# Altium schematic symbol library OK6010_DB.SCHLIB: 58 symbols
Pins are listed as number, name and electrical type; pins without a type are passive.

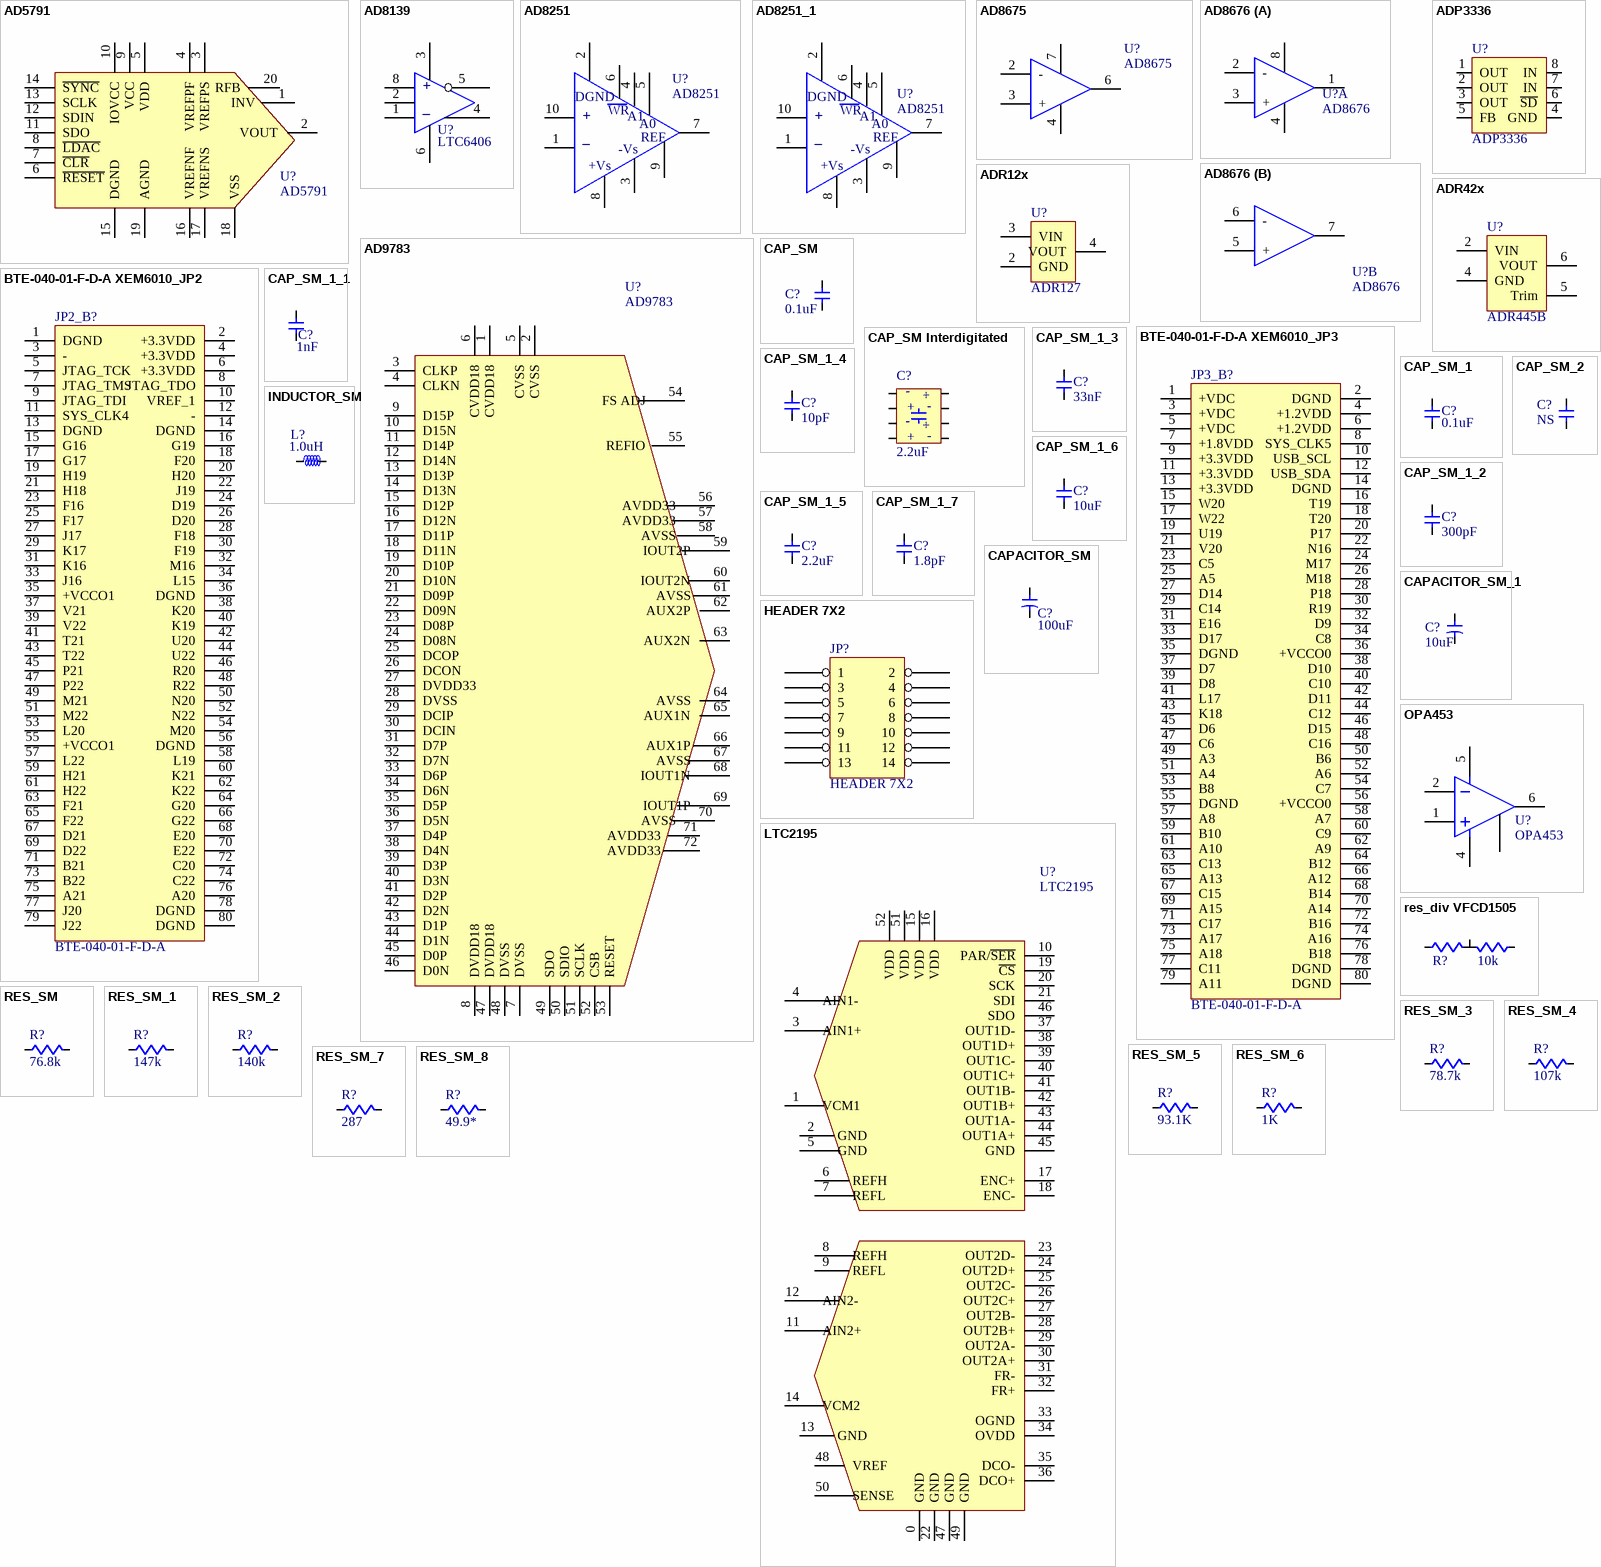
[diagram p0: symbols AD5791 to RES_SM_8]

## AD5791
designator U?
DAC 20BIT SRL 20TSSOP; Manufacturer: Analog Devices Inc; Manufacturer Part Number: AD5791ARUZ; Settling Time: 1µs; Number of Bits: 20; Data Interface: DSP, MICROWIRE™, QSPI™, Serial, SPI™; Number of Converters: 1; Voltage Supply Source: Dual ±; Supplier 1: Digi-Key; Supplier Part Number 1: AD5791ARUZ-ND; RoHS: RoHS Compliant; Category: Integrated Circuits (ICs); Stock 1: 0; Pricing 1: 1=66.31, 25=59.2804, 100=56.266, 250=53.45272, 500=51.74462, 1000=49.63465 (USD); Power Dissipation (Max): -; Operating Temperature: -40°C ~ 125°C; Mounting Type: Surface Mount; Package / Case: 20-TSSOP (0.173", 4.40mm Width); Supplier Device Package: 20-TSSOP; Packaging: Tube; ComponentLink1URL: http://www.analog.com/static/imported-files/data_sheets/AD5791.pdf; ComponentLink1Description: http://www.analog.com/static/imported-files/data_sheets/AD5791.pdf
footprint TSSOP20
pins: 1 INV, 2 VOUT, 3 VREFPS, 4 VREFPF, 5 VDD, 6 ~{RESET}, 7 ~{CLR}, 8 ~{LDAC}, 9 VCC, 10 IOVCC, 11 SDO, 12 SDIN, 13 SCLK, 14 ~{SYNC}, 15 DGND, 16 VREFNF, 17 VREFNS, 18 VSS, 19 AGND, 20 RFB

## AD8139
designator U?, comment LTC6406
Differential ADC Driver; Supplier 1: Digi-Key; Supplier Part Number 1: LTC6406CMS8E#PBF-ND
footprint soic8
footprint MSOP08
pins: 1, 2, 3, 4, 5, 6, 8
text: +; _

## AD8251
designator U?
IC AMP INST ICMOS LDRIFT 10MSOP; Supplier 1: Digi-Key; Supplier Part Number 1: AD8251ARMZ-ND
footprint MSOP10sm (AD8351)
pins: 1, 2, 3, 4, 5, 6, 7, 8, 9, 10
text: DGND; WR; +; A1; A0; _; REF; -Vs; +Vs

## AD8251_1
designator U?, comment AD8251
Programmable Gain Instumentation Amp; Supplier 1: Digi-Key; Supplier Part Number 1: AD8251ARMZ-ND
footprint MSOP10sm (AD8351)
pins: 1, 2, 3, 4, 5, 6, 7, 8, 9, 10
text: DGND; WR; +; A1; A0; _; REF; -Vs; +Vs

## AD8675
designator U?
ultraprecision  rail-to-rail op amp; Manufacturer: Analog Devices Inc; Manufacturer Part Number: AD8675ARMZ-REEL; Amplifier Type: General Purpose; Number of Circuits: 1; Slew Rate: 2.5 V/µs; Gain Bandwidth Product: 10MHz; Current - Input Bias: 500pA; Voltage - Input Offset: 10µV; Current - Supply: 2.5mA; Current - Output / Channel: 20mA; Voltage - Supply, Single/Dual (±): 10 V ~ 36 V, ±5 V ~ 18 V; Supplier 1: Digi-Key; Supplier Part Number 1: AD8675ARMZ-REELCT-ND; RoHS: RoHS Compliant; Category: Integrated Circuits (ICs); Stock 1: 6848; Pricing 1: 1=3.66, 25=2.9892, 100=2.684, 250=2.44, 500=2.135, 1000=1.83 (USD); Output Type: Rail-to-Rail; -3db Bandwidth: -; Operating Temperature: -40°C ~ 125°C; Mounting Type: Surface Mount; Package / Case: 8-TSSOP, 8-MSOP (0.118", 3.00mm Width); Supplier Device Package: 8-MSOP; Packaging: Cut Tape (CT); ComponentLink1URL: http://www.analog.com/static/imported-files/Data_Sheets/AD8675.pdf; ComponentLink1Description: http://www.analog.com/static/imported-files/Data_Sheets/AD8675.pdf
footprint MSOP08
pins: 2 -, 3 +, 4 V-, 6 OUT, 7 V+

## AD8676
designator U?
ultraprecision dual rail-to-rail op amp; Manufacturer: Analog Devices Inc; Manufacturer Part Number: AD8676BRMZ-REEL; Amplifier Type: General Purpose; Number of Circuits: 2; Slew Rate: 2.5 V/µs; Gain Bandwidth Product: 10MHz; Current - Input Bias: 2nA; Voltage - Input Offset: 12µV; Current - Supply: 2.7mA; Current - Output / Channel: 20mA; Voltage - Supply, Single/Dual (±): 10 V ~ 36 V, ±5 V ~ 18 V; Supplier 1: Digi-Key; Supplier Part Number 1: AD8676BRMZ-REELCT-ND; RoHS: RoHS Compliant; Category: Integrated Circuits (ICs); Stock 1: 23534; Pricing 1: 1=6.6, 25=5.39, 100=4.84, 250=4.4, 500=3.85, 1000=3.3 (USD); Output Type: Rail-to-Rail; -3db Bandwidth: -; Operating Temperature: -40°C ~ 125°C; Mounting Type: Surface Mount; Package / Case: 8-TSSOP, 8-MSOP (0.118", 3.00mm Width); Supplier Device Package: 8-MSOP; Packaging: Cut Tape (CT); ComponentLink1URL: http://www.analog.com/static/imported-files/Data_Sheets/AD8676.pdf; ComponentLink1Description: http://www.analog.com/static/imported-files/Data_Sheets/AD8676.pdf
footprint MSOP08
part A pins: 1 OUTA, 2 -, 3 +, 4 V-, 8 V+
part B pins: 5 +, 6 -, 7 OUTB

## AD9783
designator U?
DAC LVDS DUAL16BIT 500MSPS; Supplier 1: Digi-Key; Supplier Part Number 1: AD9783BCPZ-ND
footprint LFCSP72
pins: 1 CVDD18, 2 CVSS, 3 CLKP, 4 CLKN, 5 CVSS, 6 CVDD18, 7 DVSS, 8 DVDD18, 9 D15P, 10 D15N, 11 D14P, 12 D14N, 13 D13P, 14 D13N, 15 D12P, 16 D12N, 17 D11P, 18 D11N, 19 D10P, 20 D10N, 21 D09P, 22 D09N, 23 D08P, 24 D08N, 25 DCOP, 26 DCON, 27 DVDD33, 28 DVSS, 29 DCIP, 30 DCIN, 31 D7P, 32 D7N, 33 D6P, 34 D6N, 35 D5P, 36 D5N, 37 D4P, 38 D4N, 39 D3P, 40 D3N, 41 D2P, 42 D2N, 43 D1P, 44 D1N, 45 D0P, 46 D0N, 47 DVDD18, 48 DVSS, 49 SDO, 50 SDIO, 51 SCLK, 52 CSB, 53 RESET, 54 FS ADJ, 55 REFIO, 56 AVDD33, 57 AVDD33, 58 AVSS, 59 IOUT2P, 60 IOUT2N, 61 AVSS, 62 AUX2P, 63 AUX2N, 64 AVSS, 65 AUX1N, 66 AUX1P, 67 AVSS, 68 IOUT1N, 69 IOUT1P, 70 AVSS, 71 AVDD33, 72 AVDD33

## ADP3336
designator U?
regulator; Manufacturer: Analog Devices Inc; Manufacturer Part Number: ADP3336ARMZ-REEL7; Regulator Topology: Positive Adjustable; Voltage - Output: 1.5 V ~ 10 V; Voltage - Input: 2.6 V ~ 12 V; Voltage - Dropout (Typical): 0.2V @ 500mA; Number of Regulators: 1; Current - Output: 500mA; Supplier 1: Digi-Key; Supplier Part Number 1: ADP3336ARMZ-REEL7CT-ND; RoHS: RoHS Compliant; Category: Integrated Circuits (ICs); Stock 1: 10613; Pricing 1: 1=3.22, 25=2.484, 100=2.254, 250=2.024, 500=1.748 (USD); Current - Limit (Min): -; Operating Temperature: -40°C ~ 85°C; Mounting Type: Surface Mount; Package / Case: 8-TSSOP, 8-MSOP (0.118", 3.00mm Width); Supplier Device Package: 8-MSOP; Packaging: Cut Tape (CT); ComponentLink1URL: http://www.analog.com/static/imported-files/data_sheets/ADP3336.pdf; ComponentLink1Description: http://www.analog.com/static/imported-files/data_sheets/ADP3336.pdf
footprint MSOP08
pins: 1 OUT, 2 OUT, 3 OUT, 4 GND, 5 FB, 6 ~{SD}, 7 IN, 8 IN

## ADR12x
designator U?, comment ADR127
Voltage Reference; Manufacturer: Analog Devices Inc; Manufacturer Part Number: ADR127AUJZ-REEL7; Reference Type: Series, Precision; Voltage - Output: 1.25V; Tolerance: ±0.24%; Temperature Coefficient: 25ppm/°C; Voltage - Input: 2.7 V ~ 18 V; Number of Channels: 1; Current - Quiescent: 95µA; Current - Output: 5mA; Supplier 1: Digi-Key; Supplier Part Number 1: ADR127AUJZ-REEL7CT-ND; RoHS: RoHS Compliant; Category: Integrated Circuits (ICs); Stock 1: 17098; Pricing 1: 1=3.22, 25=2.484, 100=2.254, 250=2.024, 500=1.748 (USD); Current - Cathode: -; Operating Temperature: -40°C ~ 125°C; Mounting Type: Surface Mount; Package / Case: TSOT-23-6, TSOT-6; Supplier Device Package: TSOT-6; Packaging: Cut Tape (CT); ComponentLink1URL: http://www.analog.com/static/imported-files/Data_Sheets/ADR121_125_127.pdf; ComponentLink1Description: http://www.analog.com/static/imported-files/Data_Sheets/ADR121_125_127.pdf
footprint TSOT-6
pins: 1 NC hidden, 2 GND, 3 VIN, 4 VOUT, 5 NC hidden, 6 NC hidden

## ADR42x
designator U?, comment ADR445B
Ultra Precision Low Noise XFET Voltage Reference; Manufacturer: Analog Devices Inc; Manufacturer Part Number: ADR445BRZ; Reference Type: Series, Precision; Voltage - Output: 5V; Tolerance: ±0.04%; Temperature Coefficient: 3ppm/°C; Voltage - Input: 5.5 V ~ 18 V; Number of Channels: 1; Current - Quiescent: 3.75mA; Current - Output: 10mA; Supplier 1: Digi-Key; Supplier Part Number 1: ADR445BRZ-ND; RoHS: RoHS Compliant; Category: Integrated Circuits (ICs); Stock 1: 4260; Pricing 1: 1=8.75, 25=7.1752, 100=6.475, 250=5.95, 500=5.425, 1000=4.725, 2500=4.55, 5000=4.375 (USD); Current - Cathode: -; Operating Temperature: -40°C ~ 125°C; Mounting Type: Surface Mount; Package / Case: 8-SOIC (0.154", 3.90mm Width); Supplier Device Package: 8-SOIC; Packaging: Tube; ComponentLink1URL: http://www.analog.com/static/imported-files/Data_Sheets/ADR440_441_443_444_445.pdf; ComponentLink1Description: http://www.analog.com/static/imported-files/Data_Sheets/ADR440_441_443_444_445.pdf
footprint TSOT-6
footprint SOIC08
pins: 1 NC hidden, 2 VIN, 4 GND, 5 NC hidden, 5 Trim, 6 NC hidden, 6 VOUT

## BTE-040-01-F-D-A XEM6010_JP2
designator JP2_B?, comment BTE-040-01-F-D-A
Samtec Connector 0.8mm 80pin; Supplier 1: Newark; Supplier Part Number 1: 89M7080
footprint BTE-040-01-F-D-A (Samtec Surface Mount Micro Terminal Strip)
pins: 1 DGND, 2 +3.3VDD, 3 -, 4 +3.3VDD, 5 JTAG_TCK, 6 +3.3VDD, 7 JTAG_TMS, 8 JTAG_TDO, 9 JTAG_TDI, 10 VREF_1, 11 SYS_CLK4, 12 -, 13 DGND, 14 DGND, 15 G16, 16 G19, 17 G17, 18 F20, 19 H19, 20 H20, 21 H18, 22 J19, 23 F16, 24 D19, 25 F17, 26 D20, 27 J17, 28 F18, 29 K17, 30 F19, 31 K16, 32 M16, 33 J16, 34 L15, 35 +VCCO1, 36 DGND, 37 V21, 38 K20, 39 V22, 40 K19, 41 T21, 42 U20, 43 T22, 44 U22, 45 P21, 46 R20, 47 P22, 48 R22, 49 M21, 50 N20, 51 M22, 52 N22, 53 L20, 54 M20, 55 +VCCO1, 56 DGND, 57 L22, 58 L19, 59 H21, 60 K21, 61 H22, 62 K22, 63 F21, 64 G20, 65 F22, 66 G22, 67 D21, 68 E20, 69 D22, 70 E22, 71 B21, 72 C20, 73 B22, 74 C22, 75 A21, 76 A20, 77 J20, 78 DGND, 79 J22, 80 DGND

## BTE-040-01-F-D-A XEM6010_JP3
designator JP3_B?, comment BTE-040-01-F-D-A
Samtec Connector 0.8mm 80pin; Supplier 1: Newark; Supplier Part Number 1: 89M7080
footprint BTE-040-01-F-D-A (Samtec Surface Mount Micro Terminal Strip)
pins: 1 +VDC, 2 DGND, 3 +VDC, 4 +1.2VDD, 5 +VDC, 6 +1.2VDD, 7 +1.8VDD, 8 SYS_CLK5, 9 +3.3VDD, 10 USB_SCL, 11 +3.3VDD, 12 USB_SDA, 13 +3.3VDD, 14 DGND, 15 W20, 16 T19, 17 W22, 18 T20, 19 U19, 20 P17, 21 V20, 22 N16, 23 C5, 24 M17, 25 A5, 26 M18, 27 D14, 28 P18, 29 C14, 30 R19, 31 E16, 32 D9, 33 D17, 34 C8, 35 DGND, 36 +VCCO0, 37 D7, 38 D10, 39 D8, 40 C10, 41 L17, 42 D11, 43 K18, 44 C12, 45 D6, 46 D15, 47 C6, 48 C16, 49 A3, 50 B6, 51 A4, 52 A6, 53 B8, 54 C7, 55 DGND, 56 +VCCO0, 57 A8, 58 A7, 59 B10, 60 C9, 61 A10, 62 A9, 63 C13, 64 B12, 65 A13, 66 A12, 67 C15, 68 B14, 69 A15, 70 A14, 71 C17, 72 B16, 73 A17, 74 A16, 75 A18, 76 B18, 77 C11, 78 DGND, 79 A11, 80 DGND

## CAP_SM
designator C?, comment 0.1uF
capacitor; Manufacturer: Kemet; Manufacturer Part Number: C0603C104K3RACTU; Capacitance: 0.1µF; Temperature Coefficient: X7R; Tolerance: ±10%; Voltage - Rated: 25V; Applications: General Purpose; Category: Capacitors; ComponentLink1Description: http://www.kemet.com/datasheets&C0603C104K3RACTU; ComponentLink1URL: http://www.kemet.com/datasheets&C0603C104K3RACTU; Features: -; Lead Spacing: -; Lead Style: -; Mounting Type: Surface Mount, MLCC; Operating Temperature: -55°C ~ 125°C; Package / Case: 0603 (1608 Metric); Packaging: Cut Tape (CT); Pricing 1: 10=0.075, 100=0.027, 250=0.01952, 500=0.0144, 1000=0.00975 (USD); Ratings: -; RoHS: RoHS Compliant; Size / Dimension: 0.063" L x 0.032" W (1.60mm x 0.80mm); Stock 1: 2338960; Supplier 1: Digi-Key; Supplier Part Number 1: 399-1281-1-ND; Thickness: 0.80mm
footprint 1206
footprint 0603w
footprint 0603
pins: 1, 2

## CAP_SM Interdigitated
designator C?, comment 2.2uF
INTERDIGITATED capacitor; Manufacturer: TDK Corporation; Manufacturer Part Number: CLLE1AX7S0G225M/0.95; Capacitance: 2.2µF; Voltage - Rated: 4V; Tolerance: ±20%; Temperature Coefficient: X7S; Supplier 1: Digi-Key; Supplier Part Number 1: 445-3406-1-ND; RoHS: RoHS Compliant; Category: Capacitors; Stock 1: 11249; Pricing 1: 1=0.68, 10=0.54, 100=0.325, 250=0.24376, 500=0.208, 1000=0.1625 (USD); Mounting Type: Surface Mount, MLCC; Operating Temperature: -55°C ~ 125°C; Applications: General Purpose; Ratings: -; Package / Case: 0805 (2012 Metric); Size / Dimension: 0.079" L x 0.049" W (2.00mm x 1.25mm); Height: -; Thickness: 0.037" (0.95mm); Lead Spacing: -; Features: Low ESL (Multi-Terminal); Packaging: Cut Tape (CT); Lead Style: -; ComponentLink1URL: http://www.tdk.com/pdf/uli_A11.pdf; ComponentLink1Description: http://www.tdk.com/pdf/uli_A11.pdf
footprint 0805 CLL (Interdigitated Capacitor)
pins: 1, 2, 3, 4, 5, 6, 7, 8
text: +

## CAP_SM_1
designator C?, comment 0.1uF
capacitor; Manufacturer: Kemet; Manufacturer Part Number: C0603C104K3RACTU; Capacitance: 0.1µF; Temperature Coefficient: X7R; Tolerance: ±10%; Voltage - Rated: 25V; Applications: General Purpose; Category: Capacitors; ComponentLink1Description: http://www.kemet.com/datasheets&C0603C104K3RACTU; ComponentLink1URL: http://www.kemet.com/datasheets&C0603C104K3RACTU; Features: -; Lead Spacing: -; Lead Style: -; Mounting Type: Surface Mount, MLCC; Operating Temperature: -55°C ~ 125°C; Package / Case: 0603 (1608 Metric); Packaging: Cut Tape (CT); Pricing 1: 10=0.075, 100=0.027, 250=0.01952, 500=0.0144, 1000=0.00975 (USD); Ratings: -; RoHS: RoHS Compliant; Size / Dimension: 0.063" L x 0.032" W (1.60mm x 0.80mm); Stock 1: 2338960; Supplier 1: Digi-Key; Supplier Part Number 1: 399-1281-1-ND; Thickness: 0.80mm
footprint 1206
footprint 0603w
pins: 1, 2

## CAP_SM_1_1
designator C?, comment 1nF
capacitor; Manufacturer: Murata Electronics North America; Manufacturer Part Number: GRM188R71H102KA01D; Capacitance: 1000pF; Voltage - Rated: 50V; Tolerance: ±10%; Temperature Coefficient: X7R; Supplier 1: Digi-Key; Supplier Part Number 1: 490-1494-1-ND; RoHS: RoHS Compliant; Category: Capacitors; Stock 1: 512721; Pricing 1: 1=0.07, 10=0.043, 50=0.0204, 100=0.0153, 250=0.01104, 500=0.00816, 1000=0.00553 (USD); Mounting Type: Surface Mount, MLCC; Operating Temperature: -55°C ~ 125°C; Applications: General Purpose; Ratings: -; Package / Case: 0603 (1608 Metric); Size / Dimension: 0.063" L x 0.031" W (1.60mm x 0.80mm); Height: -; Thickness: 0.035" (0.90mm); Lead Spacing: -; Features: -; Packaging: Cut Tape (CT); Lead Style: -; ComponentLink1URL: http://search.murata.co.jp/Ceramy/image/img/PDF/ENG/GRM188R71H102KA01.pdf; ComponentLink1Description: http://search.murata.co.jp/Ceramy/image/img/PDF/ENG/GRM188R71H102KA01.pdf
footprint 1206
footprint 0603w
pins: 1, 2

## CAP_SM_1_2
designator C?, comment 300pF
capacitor; Supplier 1: Digi-Key; Supplier Part Number 1: 490-1438-1-ND
footprint 1206
footprint 0603w
pins: 1, 2

## CAP_SM_1_3
designator C?, comment 33nF
capacitor; Supplier 1: Digi-Key; Supplier Part Number 1: 490-3323-1-ND
footprint 1206
footprint 0603w
footprint 0805
pins: 1, 2

## CAP_SM_1_4
designator C?, comment 10pF
capacitor; Manufacturer: Murata Electronics North America; Manufacturer Part Number: GRM1885C1H100JA01D; Voltage - Rated: 50V; Tolerance: ±5%; Temperature Coefficient: C0G, NP0; Supplier 1: Digi-Key; Supplier Part Number 1: 490-1403-1-ND; RoHS: RoHS Compliant; Category: Capacitors; Stock 1: 256478; Pricing 1: 1=0.14, 10=0.085, 50=0.0408, 100=0.0306, 250=0.02212, 500=0.01632, 1000=0.01105 (USD); Capacitance: 10pF; Mounting Type: Surface Mount, MLCC; Operating Temperature: -55°C ~ 125°C; Applications: General Purpose; Ratings: -; Package / Case: 0603 (1608 Metric); Size / Dimension: 0.063" L x 0.031" W (1.60mm x 0.80mm); Height: -; Thickness: 0.035" (0.90mm); Lead Spacing: -; Features: -; Packaging: Cut Tape (CT); Lead Style: -; ComponentLink1URL: http://search.murata.co.jp/Ceramy/image/img/PDF/ENG/GRM1885C1H100JA01.pdf; ComponentLink1Description: http://search.murata.co.jp/Ceramy/image/img/PDF/ENG/GRM1885C1H100JA01.pdf
footprint 1206
footprint 0603w
pins: 1, 2

## CAP_SM_1_5
designator C?, comment 2.2uF
capacitor; Manufacturer: AVX Corporation; Manufacturer Part Number: 06036C225KAT2A; Capacitance: 2.2µF; Voltage - Rated: 6.3V; Tolerance: ±10%; Temperature Coefficient: X7R; Supplier 1: Digi-Key; Supplier Part Number 1: 478-5316-1-ND; RoHS: RoHS Compliant; Category: Capacitors; Stock 1: 284343; Pricing 1: 10=0.209, 100=0.1235, 500=0.07126, 1000=0.0494 (USD); Mounting Type: Surface Mount, MLCC; Operating Temperature: -55°C ~ 125°C; Applications: General Purpose; Ratings: -; Package / Case: 0603 (1608 Metric); Size / Dimension: 0.063" L x 0.032" W (1.60mm x 0.81mm); Height: -; Thickness: 0.035" (0.90mm); Lead Spacing: -; Features: -; Packaging: Cut Tape (CT); Lead Style: -; ComponentLink1URL: http://www.avx.com/docs/Catalogs/cx7r.pdf; ComponentLink1Description: http://www.avx.com/docs/Catalogs/cx7r.pdf
footprint 1206
footprint 1206
footprint 0603w
pins: 1, 2

## CAP_SM_1_6
designator C?, comment 10uF
capacitor; Manufacturer: Murata Electronics North America; Manufacturer Part Number: GRM188R60J106ME47D; Capacitance: 10µF; Voltage - Rated: 6.3V; Tolerance: ±20%; Temperature Coefficient: X5R; Supplier 1: Digi-Key; Supplier Part Number 1: 490-3896-1-ND; RoHS: RoHS Compliant; Category: Capacitors; Stock 1: 1274844; Pricing 1: 1=0.47, 10=0.369, 50=0.2428, 100=0.1926, 250=0.14236, 500=0.11056, 1000=0.0871 (USD); Mounting Type: Surface Mount, MLCC; Operating Temperature: -55°C ~ 85°C; Applications: General Purpose; Ratings: -; Package / Case: 0603 (1608 Metric); Size / Dimension: 0.063" L x 0.031" W (1.60mm x 0.80mm); Height: -; Thickness: 0.035" (0.90mm); Lead Spacing: -; Features: -; Packaging: Cut Tape (CT); Lead Style: -; ComponentLink1URL: http://search.murata.co.jp/Ceramy/image/img/PDF/ENG/GRM188R60J106ME47.pdf; ComponentLink1Description: http://search.murata.co.jp/Ceramy/image/img/PDF/ENG/GRM188R60J106ME47.pdf
footprint 1206
footprint 1206
footprint 0603w
pins: 1, 2

## CAP_SM_1_7
designator C?, comment 1.8pF
capacitor; Supplier 1: Digi-Key; Supplier Part Number 1: 712-1328-1-ND
footprint 1206
footprint 0603w
pins: 1, 2

## CAP_SM_2
designator C?, comment NS
capacitor
footprint 1206
footprint 0603w
pins: 1, 2

## CAPACITOR_SM
designator C?, comment 100uF
capacitor; Manufacturer: TDK Corporation; Manufacturer Part Number: C3216X5R0J107M; Capacitance: 100µF; Voltage - Rated: 6.3V; Tolerance: ±20%; Temperature Coefficient: X5R; Supplier 1: Digi-Key; Supplier Part Number 1: 445-6008-1-ND; RoHS: RoHS Compliant; Category: Capacitors; Stock 1: 10697; Pricing 1: 1=1.24, 10=1.034, 100=0.759, 250=0.66, 500=0.616, 1000=0.484 (USD); Mounting Type: Surface Mount, MLCC; Operating Temperature: -55°C ~ 85°C; Applications: General Purpose; Ratings: -; Package / Case: 1206 (3216 Metric); Size / Dimension: 0.126" L x 0.063" W (3.20mm x 1.60mm); Height: -; Thickness: 0.071" (1.80mm); Lead Spacing: -; Features: Low ESR; Packaging: Cut Tape (CT); Lead Style: -; ComponentLink1URL: http://www.tdk.com/pdf/general_A11.pdf; ComponentLink1Description: http://www.tdk.com/pdf/general_A11.pdf
footprint 1206
pins: 1, 2

## CAPACITOR_SM_1
designator C?, comment 10uF
ELECTROLYTIC capacitor; Manufacturer: Nichicon; Manufacturer Part Number: F971C106MAA; Manufacturer Size Code: A; Capacitance: 10µF; Temperature Coefficient: X5R; Tolerance: ±20%; Voltage - Rated: 16V; ESR (Equivalent Series Resistance): 3.500 Ohm; Type: Molded; Applications: General Purpose; Category: Capacitors; ComponentLink1Description: http://nichicon-us.com/english/products/pdf/e-f97.pdf; ComponentLink1URL: http://nichicon-us.com/english/products/pdf/e-f97.pdf; Features: High Reliability; Height: 0.071" (1.80mm); Lead Spacing: -; Lead Style: -; Mounting Type: Surface Mount; Operating Temperature: -55°C ~ 125°C; Package / Case: 1206 (3216 Metric); Packaging: Cut Tape (CT); Pricing 1: 1=0.5, 10=0.398, 100=0.24, 250=0.18, 500=0.1536, 1000=0.12 (USD); Ratings: -; RoHS: RoHS Compliant; Size / Dimension: 0.126" L x 0.063" W (3.20mm x 1.60mm); Stock 1: 885; Supplier 1: Digi-Key; Supplier Part Number 1: 493-4304-1-ND; Thickness: 0.071" (1.80mm); Lifetime @ Temp.: -
footprint 1206
pins: 1, 2

## HEADER 7X2
designator JP?
14 pin 2mm IDC connector; Supplier 1: Digi-Key; Supplier Part Number 1: WM18641-ND
footprint IDC14 SM 2MM (MOLEX 87832-1420)
pins: 1, 2, 3, 4, 5, 6, 7, 8, 9, 10, 11, 12, 13, 14

## INDUCTOR_SM
designator L?, comment 1.0uH
inductor; Manufacturer: Murata Electronics North America; Manufacturer Part Number: LQM21FN1R0N00D; Current: 220mA; DC Resistance (DCR): 260 mOhm Max; Frequency - Test: 1MHz; Inductance: 1µH; Self Resonant Freq: 105MHz; Shielding: Shielded; Tolerance: ±30%; Current - Saturation: -; Current - Temperature Rise: -; Mounting Type: Surface Mount; Operating Temperature: -40°C ~ 85°C; Package / Case: 0805 (2012 Metric); Packaging: Cut Tape (CT); Q @ Freq: -; RoHS: RoHS Compliant; Type: -; Supplier 1: Digi-Key; Supplier Part Number 1: 490-4026-1-ND; Stock 1: 0; Pricing 1: 1=0.11, 10=0.104, 50=0.0972, 100=0.0907, 500=0.07122, 1000=0.05828 (USD); Material - Core: -
footprint 1008 (sm inductor)
footprint 1206
footprint 1210
footprint 0805
pins: 1, 2

## LTC2195
designator U?
16 bit, low power, dual ADC; Supplier 1: Digi-Key; Supplier Part Number 1: LTC2195CUKG#PBF-ND
footprint UKG - QFN52
pins: 0 GND, 1 VCM1, 2 GND, 3 AIN1+, 4 AIN1-, 5 GND, 6 REFH, 7 REFL, 8 REFH, 9 REFL, 10 PAR/~{SER}, 11 AIN2+, 12 AIN2-, 13 GND, 14 VCM2, 15 VDD, 16 VDD, 17 ENC+, 18 ENC-, 19 ~{CS}, 20 SCK, 21 SDI, 22 GND, 23 OUT2D-, 24 OUT2D+, 25 OUT2C-, 26 OUT2C+, 27 OUT2B-, 28 OUT2B+, 29 OUT2A-, 30 OUT2A+, 31 FR-, 32 FR+, 33 OGND, 34 OVDD, 35 DCO-, 36 DCO+, 37 OUT1D-, 38 OUT1D+, 39 OUT1C-, 40 OUT1C+, 41 OUT1B-, 42 OUT1B+, 43 OUT1A-, 44 OUT1A+, 45 GND, 46 SDO, 47 GND, 48 VREF, 49 GND, 50 SENSE, 51 VDD, 52 VDD

## OPA453
designator U?
80 V op amp; Manufacturer: Texas Instruments; Manufacturer Part Number: OPA453FAKTWT; Amplifier Type: General Purpose; Number of Circuits: 1; Slew Rate: 38 V/µs; Gain Bandwidth Product: 7.5MHz; Current - Input Bias: 7pA; Voltage - Input Offset: 1000µV; Current - Supply: 5.5mA; Current - Output / Channel: 50mA; Voltage - Supply, Single/Dual (±): 20 V ~ 80 V, ±10 V ~ 40 V; Supplier 1: Mouser; Supplier Part Number 1: 595-OPA453FAKTWT; RoHS: RoHS Compliant; Category: Integrated Circuits (ICs); Stock 1: 0; Pricing 1: 1=6.76, 25=5.61 (USD); Output Type: -; -3db Bandwidth: -; Operating Temperature: -40°C ~ 125°C; Mounting Type: Surface Mount; Package / Case: TO-263-8, D²Pak (7 Leads + Tab), TO-263CA; Supplier Device Package: 7-DDPAK; Packaging: Cut Tape (CT); ComponentLink1URL: http://focus.ti.com/lit/ds/symlink/opa452.pdf; ComponentLink1Description: http://focus.ti.com/lit/ds/symlink/opa452.pdf; Supplier 2: Mouser; Supplier 2 Part Number: 595-OPA453FAKTWT
footprint DIP8
footprint DDPAK-7
pins: 1, 2, 4, 5, 6, 7

## res_div VFCD1505
designator R?, comment 10k
resistor network; Manufacturer: Vishay Foil Resistors (Division of Vishay Precision Group); Manufacturer Part Number: Y1685V0001TT9W; Number of Resistors: 2; Circuit Type: Common; Temperature Coefficient: ±0.2ppm/°C; Tolerance: ±0.01%; Power Per Element: 100mW; Supplier 1: Digi-Key; Supplier Part Number 1: Y1685-10K/10K-ND; RoHS: RoHS Compliant; Category: Resistors; Stock 1: 225; Pricing 1: 1=24.42, 25=19.2752, 100=17.6688, 250=16.705, 500=16.0625 (USD); Resistance (Ohms): 10K; Number of Pins: 3; Applications: -; Package / Case: 1505 (3813 Metric); Size / Dimension: 0.150" L x 0.050" W (3.81mm x 1.27mm); Height: 0.025" (0.64mm); Mounting Type: Surface Mount; Packaging: Tube; Operating Temperature: -55°C ~ 125°C; Supplier Device Package: -; ComponentLink1URL: http://www.vishaypg.com/docs/63109/vfcd1505.pdf; ComponentLink1Description: http://www.vishaypg.com/docs/63109/vfcd1505.pdf
footprint VFCD1505 (resistor - surface mount voltage divider)
pins: 1, 2, 3

## RES_SM
designator R?, comment 76.8k
resistor; Manufacturer: Yageo; Manufacturer Part Number: RC0603FR-0776K8L; Power (Watts): 0.1W, 1/10W; Temperature Coefficient: ±100ppm/°C; Tolerance: ±1%; Supplier 1: Digi-Key; Supplier Part Number 1: 311-76.8KHRCT-ND; RoHS: RoHS Compliant; Category: Resistors; Stock 1: 91480; Pricing 1: 10=0.014, 50=0.0104, 100=0.0079, 250=0.00584, 500=0.00432, 1000=0.00288 (USD); Resistance (Ohms): 76.8K; Composition: Thick Film; Features: -; Size / Dimension: 0.063" L x 0.031" W (1.60mm x 0.80mm); Height: 0.018" (0.45mm); Number of Terminations: 2; Packaging: Cut Tape (CT); Package / Case: 0603 (1608 Metric); ComponentLink1URL: http://www.yageo.com/documents/recent/PYu-RC0603_51_RoHS_L_4.pdf; ComponentLink1Description: http://www.yageo.com/documents/recent/PYu-RC0603_51_RoHS_L_4.pdf
footprint 1206
footprint 0603w
pins: 1, 2

## RES_SM_1
designator R?, comment 147k
resistor; Manufacturer: Yageo; Manufacturer Part Number: RC0603FR-07147KL; Power (Watts): 0.1W, 1/10W; Temperature Coefficient: ±100ppm/°C; Tolerance: ±1%; Supplier 1: Digi-Key; Supplier Part Number 1: 311-147KHRCT-ND; RoHS: RoHS Compliant; Category: Resistors; Stock 1: 53540; Pricing 1: 10=0.014, 50=0.0104, 100=0.0079, 250=0.00584, 500=0.00432, 1000=0.00288 (USD); Resistance (Ohms): 147K; Composition: Thick Film; Features: -; Size / Dimension: 0.063" L x 0.031" W (1.60mm x 0.80mm); Height: 0.018" (0.45mm); Number of Terminations: 2; Packaging: Cut Tape (CT); Package / Case: 0603 (1608 Metric); ComponentLink1URL: http://www.yageo.com/documents/recent/PYu-RC0603_51_RoHS_L_4.pdf; ComponentLink1Description: http://www.yageo.com/documents/recent/PYu-RC0603_51_RoHS_L_4.pdf
footprint 1206
footprint 0603w
pins: 1, 2

## RES_SM_2
designator R?, comment 140k
resistor; Manufacturer: Yageo; Manufacturer Part Number: RC0603FR-07140KL; Power (Watts): 0.1W, 1/10W; Temperature Coefficient: ±100ppm/°C; Tolerance: ±1%; Supplier 1: Digi-Key; Supplier Part Number 1: 311-140KHRCT-ND; RoHS: RoHS Compliant; Category: Resistors; Stock 1: 612355; Pricing 1: 10=0.014, 50=0.0104, 100=0.0079, 250=0.00584, 500=0.00432, 1000=0.00288 (USD); Resistance (Ohms): 140K; Composition: Thick Film; Features: -; Size / Dimension: 0.063" L x 0.031" W (1.60mm x 0.80mm); Height: 0.018" (0.45mm); Number of Terminations: 2; Packaging: Cut Tape (CT); Package / Case: 0603 (1608 Metric); ComponentLink1URL: http://www.yageo.com/documents/recent/PYu-RC0603_51_RoHS_L_4.pdf; ComponentLink1Description: http://www.yageo.com/documents/recent/PYu-RC0603_51_RoHS_L_4.pdf
footprint 1206
footprint 0603w
pins: 1, 2

## RES_SM_3
designator R?, comment 78.7k
resistor; Manufacturer: Yageo; Manufacturer Part Number: RC0603FR-0778K7L; Power (Watts): 0.1W, 1/10W; Temperature Coefficient: ±100ppm/°C; Tolerance: ±1%; Supplier 1: Digi-Key; Supplier Part Number 1: 311-78.7KHRCT-ND; RoHS: RoHS Compliant; Category: Resistors; Stock 1: 134270; Pricing 1: 10=0.014, 50=0.0104, 100=0.0079, 250=0.00584, 500=0.00432, 1000=0.00288 (USD); Resistance (Ohms): 78.7K; Composition: Thick Film; Features: -; Size / Dimension: 0.063" L x 0.031" W (1.60mm x 0.80mm); Height: 0.018" (0.45mm); Number of Terminations: 2; Packaging: Cut Tape (CT); Package / Case: 0603 (1608 Metric); ComponentLink1URL: http://www.yageo.com/documents/recent/PYu-RC0603_51_RoHS_L_4.pdf; ComponentLink1Description: http://www.yageo.com/documents/recent/PYu-RC0603_51_RoHS_L_4.pdf
footprint 1206
footprint 0603w
pins: 1, 2

## RES_SM_4
designator R?, comment 107k
resistor; Manufacturer: Yageo; Manufacturer Part Number: RC0603FR-07107KL; Power (Watts): 0.1W, 1/10W; Temperature Coefficient: ±100ppm/°C; Tolerance: ±1%; Supplier 1: Digi-Key; Supplier Part Number 1: 311-107KHRCT-ND; RoHS: RoHS Compliant; Category: Resistors; Stock 1: 136570; Pricing 1: 10=0.014, 50=0.0104, 100=0.0079, 250=0.00584, 500=0.00432, 1000=0.00288 (USD); Resistance (Ohms): 107K; Composition: Thick Film; Features: -; Size / Dimension: 0.063" L x 0.031" W (1.60mm x 0.80mm); Height: 0.018" (0.45mm); Number of Terminations: 2; Packaging: Cut Tape (CT); Package / Case: 0603 (1608 Metric); ComponentLink1URL: http://www.yageo.com/documents/recent/PYu-RC0603_51_RoHS_L_4.pdf; ComponentLink1Description: http://www.yageo.com/documents/recent/PYu-RC0603_51_RoHS_L_4.pdf
footprint 1206
footprint 0603w
pins: 1, 2

## RES_SM_5
designator R?, comment 93.1K
resistor; Manufacturer: Yageo; Manufacturer Part Number: RC0603FR-0793K1L; Power (Watts): 0.1W, 1/10W; Temperature Coefficient: ±100ppm/°C; Tolerance: ±1%; Supplier 1: Digi-Key; Supplier Part Number 1: 311-93.1KHRCT-ND; RoHS: RoHS Compliant; Category: Resistors; Stock 1: 109138; Pricing 1: 10=0.014, 50=0.0104, 100=0.0079, 250=0.00584, 500=0.00432, 1000=0.00288 (USD); Resistance (Ohms): 93.1K; Composition: Thick Film; Features: -; Size / Dimension: 0.063" L x 0.031" W (1.60mm x 0.80mm); Height: 0.018" (0.45mm); Number of Terminations: 2; Packaging: Cut Tape (CT); Package / Case: 0603 (1608 Metric); ComponentLink1URL: http://www.yageo.com/documents/recent/PYu-RC0603_51_RoHS_L_4.pdf; ComponentLink1Description: http://www.yageo.com/documents/recent/PYu-RC0603_51_RoHS_L_4.pdf
footprint 1206
footprint 0603w
pins: 1, 2

## RES_SM_6
designator R?, comment 1K
resistor; Manufacturer: Yageo; Manufacturer Part Number: RC0603FR-071KL; Power (Watts): 0.1W, 1/10W; Temperature Coefficient: ±100ppm/°C; Tolerance: ±1%; Supplier 1: Digi-Key; Supplier Part Number 1: 311-1.00KHRCT-ND; RoHS: RoHS Compliant; Category: Resistors; Stock 1: 4416298; Pricing 1: 10=0.014, 50=0.0104, 100=0.0079, 250=0.00584, 500=0.00432, 1000=0.00288 (USD); Resistance (Ohms): 1K; Composition: Thick Film; Features: -; Size / Dimension: 0.063" L x 0.031" W (1.60mm x 0.80mm); Height: 0.018" (0.45mm); Number of Terminations: 2; Packaging: Cut Tape (CT); Package / Case: 0603 (1608 Metric); ComponentLink1URL: http://www.yageo.com/documents/recent/PYu-RC0603_51_RoHS_L_4.pdf; ComponentLink1Description: http://www.yageo.com/documents/recent/PYu-RC0603_51_RoHS_L_4.pdf
footprint 1206
footprint 0603w
pins: 1, 2

## RES_SM_7
designator R?, comment 287
resistor; Manufacturer: Yageo; Manufacturer Part Number: RC0603FR-07287RL; Power (Watts): 0.1W, 1/10W; Temperature Coefficient: ±100ppm/°C; Tolerance: ±1%; Supplier 1: Digi-Key; Supplier Part Number 1: 311-287HRCT-ND; RoHS: RoHS Compliant; Category: Resistors; Stock 1: 82528; Pricing 1: 10=0.014, 50=0.0104, 100=0.0079, 250=0.00584, 500=0.00432, 1000=0.00288 (USD); Resistance (Ohms): 287; Composition: Thick Film; Features: -; Size / Dimension: 0.063" L x 0.031" W (1.60mm x 0.80mm); Height: 0.018" (0.45mm); Number of Terminations: 2; Packaging: Cut Tape (CT); Package / Case: 0603 (1608 Metric); ComponentLink1URL: http://www.yageo.com/documents/recent/PYu-RC0603_51_RoHS_L_4.pdf; ComponentLink1Description: http://www.yageo.com/documents/recent/PYu-RC0603_51_RoHS_L_4.pdf
footprint 1206
footprint 0603w
pins: 1, 2

## RES_SM_8
designator R?, comment 49.9*
resistor; Manufacturer: Stackpole Electronics Inc; Manufacturer Part Number: RNCS0603BKE49R9; Resistance (Ohms): 49.9; Power (Watts): 0.063W, 1/16W; Temperature Coefficient: ±25ppm/°C; Tolerance: ±0.1%; Supplier 1: Digi-Key; Supplier Part Number 1: RNCS0603BKE49R9CT-ND; RoHS: RoHS Compliant; Category: Resistors; Stock 1: 13782; Pricing 1: 1=0.7, 10=0.475, 50=0.2876, 100=0.2375, 250=0.18752, 500=0.16 (USD); Composition: Thin Film; Features: Anti-Corrosive, Moisture Resistant; Size / Dimension: 0.061" L x 0.031" W (1.55mm x 0.80mm); Height: 0.018" (0.45mm); Number of Terminations: 2; Packaging: Cut Tape (CT); Package / Case: 0603 (1608 Metric); ComponentLink1URL: http://www.seielect.com/Catalog/SEI-rncs.pdf; ComponentLink1Description: http://www.seielect.com/Catalog/SEI-rncs.pdf
footprint 1206
footprint 0603w
pins: 1, 2

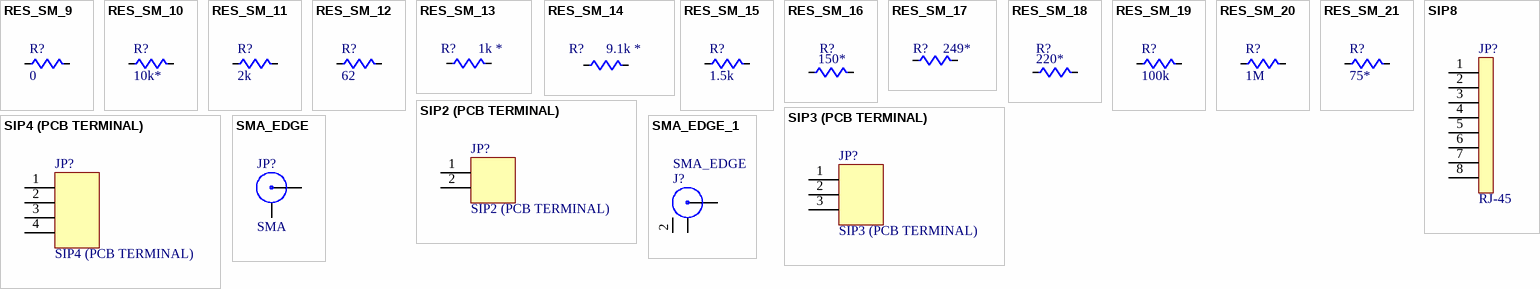
[diagram p1: symbols RES_SM_9 to SMA_EDGE_1]

## RES_SM_9
designator R?, comment 0
resistor; Supplier 1: Digi-Key; Supplier Part Number 1: P0.0GCT-ND
footprint 1206
footprint 0603w
pins: 1, 2

## RES_SM_10
designator R?, comment 10k*
resistor; Manufacturer: Susumu; Manufacturer Part Number: RG1608P-103-B-T5; Resistance (Ohms): 10K; Power (Watts): 0.1W, 1/10W; Temperature Coefficient: ±25ppm/°C; Tolerance: ±0.1%; Supplier 1: Digi-Key; Supplier Part Number 1: RG16P10.0KBCT-ND; RoHS: RoHS Compliant; Category: Resistors; Stock 1: 368390; Pricing 1: 10=0.409, 50=0.2478, 200=0.2047, 1000=0.10342 (USD); Composition: Thin Film; Features: -; Size / Dimension: 0.063" L x 0.031" W (1.60mm x 0.80mm); Height: 0.016" (0.40mm); Number of Terminations: 2; Packaging: Cut Tape (CT); Package / Case: 0603 (1608 Metric); ComponentLink1URL: http://www.susumu-usa.com/pdf/RG_RM_RGH_DATASHEET.pdf; ComponentLink1Description: http://www.susumu-usa.com/pdf/RG_RM_RGH_DATASHEET.pdf
footprint 1206
footprint 0603w
pins: 1, 2

## RES_SM_11
designator R?, comment 2k
resistor; Manufacturer: Yageo; Manufacturer Part Number: RC0603FR-072KL; Power (Watts): 0.1W, 1/10W; Temperature Coefficient: ±100ppm/°C; Tolerance: ±1%; Category: Resistors; ComponentLink1Description: http://www.yageo.com/documents/recent/PYu-RC0603_51_RoHS_L_4.pdf; ComponentLink1URL: http://www.yageo.com/documents/recent/PYu-RC0603_51_RoHS_L_4.pdf; Composition: Thick Film; Features: -; Height: 0.018" (0.45mm); Number of Terminations: 2; Package / Case: 0603 (1608 Metric); Packaging: Cut Tape (CT); Pricing 1: 10=0.014, 50=0.0104, 100=0.0079, 250=0.00584, 500=0.00432, 1000=0.00288 (USD); Resistance (Ohms): 2K; RoHS: RoHS Compliant; Size / Dimension: 0.063" L x 0.031" W (1.60mm x 0.80mm); Stock 1: 1129886; Supplier 1: Digi-Key; Supplier Part Number 1: 311-2.00KHRCT-ND
footprint 1206
footprint 0603w
pins: 1, 2

## RES_SM_12
designator R?, comment 62
resistor; Supplier 1: Digi-Key; Supplier Part Number 1: 541-62.0HCT-ND
footprint 1206
footprint 0603w
pins: 1, 2

## RES_SM_13
designator R?, comment 1k *
resistor; Supplier 1: Digi-Key; Supplier Part Number 1: RG20P1.0KBCT-ND
footprint 1206
footprint 0603w
footprint 0805
pins: 1, 2

## RES_SM_14
designator R?, comment 9.1k *
resistor; Manufacturer: Susumu; Manufacturer Part Number: RG2012P-912-B-T5; Power (Watts): 0.125W, 1/8W; Temperature Coefficient: ±25ppm/°C; Tolerance: ±0.1%; Supplier 1: Digi-Key; Supplier Part Number 1: RG20P9.1KBCT-ND; RoHS: RoHS Compliant; Category: Resistors; Stock 1: 12782; Pricing 1: 10=0.409, 50=0.2478, 200=0.2047, 1000=0.10342 (USD); Resistance (Ohms): 9.1K; Composition: Thin Film; Features: -; Size / Dimension: 0.079" L x 0.049" W (2.00mm x 1.25mm); Height: 0.016" (0.40mm); Number of Terminations: 2; Packaging: Cut Tape (CT); Package / Case: 0805 (2012 Metric); ComponentLink1URL: http://www.susumu.co.jp/english/pdf/products-j01-01.pdf; ComponentLink1Description: http://www.susumu.co.jp/english/pdf/products-j01-01.pdf; Supplier 2: Digi-Key; Supplier Part Number 2: RG1608P-9091-B-T1-ND; Stock 2: 0; Pricing 2: 1000=0.08165 (USD); ComponentLink2URL: http://www.susumu-usa.com/pdf/products_8_9.pdf; ComponentLink2Description: http://www.susumu-usa.com/pdf/products_8_9.pdf
footprint 1206
footprint 0603w
footprint 0805
pins: 1, 2

## RES_SM_15
designator R?, comment 1.5k
resistor; Manufacturer: Yageo; Manufacturer Part Number: RC0603FR-071K5L; Power (Watts): 0.1W, 1/10W; Temperature Coefficient: ±100ppm/°C; Tolerance: ±1%; Supplier 1: Digi-Key; Supplier Part Number 1: 311-1.50KHRCT-ND; RoHS: RoHS Compliant; Category: Resistors; Stock 1: 822850; Pricing 1: 10=0.014, 50=0.0104, 100=0.0079, 250=0.00584, 500=0.00432, 1000=0.00288 (USD); Resistance (Ohms): 1.5K; Composition: Thick Film; Features: -; Size / Dimension: 0.063" L x 0.031" W (1.60mm x 0.80mm); Height: 0.018" (0.45mm); Number of Terminations: 2; Packaging: Cut Tape (CT); Package / Case: 0603 (1608 Metric); ComponentLink1URL: http://www.yageo.com/documents/recent/PYu-RC0603_51_RoHS_L_4.pdf; ComponentLink1Description: http://www.yageo.com/documents/recent/PYu-RC0603_51_RoHS_L_4.pdf
footprint 1206
footprint 0603w
pins: 1, 2

## RES_SM_16
designator R?, comment 150*
resistor; Supplier 1: Digi-Key; Supplier Part Number 1: RNCS0603BKE150RCT-ND
footprint 1206
footprint 0603w
pins: 1, 2

## RES_SM_17
designator R?, comment 249*
resistor; Supplier 1: Digi-Key; Supplier Part Number 1: RNCS0603BKE249RCT-ND
footprint 1206
footprint 0603w
pins: 1, 2

## RES_SM_18
designator R?, comment 220*
resistor; Supplier 1: Digi-Key; Supplier Part Number 1: RG16P220BCT-ND
footprint 1206
footprint 0603w
pins: 1, 2

## RES_SM_19
designator R?, comment 100k
resistor; Manufacturer: Yageo; Manufacturer Part Number: RC0603FR-07100KL; Power (Watts): 0.1W, 1/10W; Temperature Coefficient: ±100ppm/°C; Tolerance: ±1%; Supplier 1: Digi-Key; Supplier Part Number 1: 311-100KHRCT-ND; RoHS: RoHS Compliant; Category: Resistors; Stock 1: 3397757; Pricing 1: 10=0.014, 50=0.0104, 100=0.0079, 250=0.00584, 500=0.00432, 1000=0.00288 (USD); Resistance (Ohms): 100K; Composition: Thick Film; Features: -; Size / Dimension: 0.063" L x 0.031" W (1.60mm x 0.80mm); Height: 0.018" (0.45mm); Number of Terminations: 2; Packaging: Cut Tape (CT); Package / Case: 0603 (1608 Metric); ComponentLink1URL: http://www.yageo.com/documents/recent/PYu-RC0603_51_RoHS_L_4.pdf; ComponentLink1Description: http://www.yageo.com/documents/recent/PYu-RC0603_51_RoHS_L_4.pdf
footprint 1206
footprint 0603w
pins: 1, 2

## RES_SM_20
designator R?, comment 1M
resistor; Manufacturer: Yageo; Manufacturer Part Number: RC0603FR-071ML; Power (Watts): 0.1W, 1/10W; Temperature Coefficient: ±100ppm/°C; Tolerance: ±1%; Supplier 1: Digi-Key; Supplier Part Number 1: 311-1.00MHRCT-ND; RoHS: RoHS Compliant; Category: Resistors; Stock 1: 1849601; Pricing 1: 10=0.014, 50=0.0104, 100=0.0079, 250=0.00584, 500=0.00432, 1000=0.00288 (USD); Resistance (Ohms): 1M; Composition: Thick Film; Features: -; Size / Dimension: 0.063" L x 0.031" W (1.60mm x 0.80mm); Height: 0.018" (0.45mm); Number of Terminations: 2; Packaging: Cut Tape (CT); Package / Case: 0603 (1608 Metric); ComponentLink1URL: http://www.yageo.com/documents/recent/PYu-RC0603_51_RoHS_L_4.pdf; ComponentLink1Description: http://www.yageo.com/documents/recent/PYu-RC0603_51_RoHS_L_4.pdf
footprint 1206
footprint 0603w
pins: 1, 2

## RES_SM_21
designator R?, comment 75*
resistor; Manufacturer: Stackpole Electronics Inc; Manufacturer Part Number: RNCS0603BKE75R0; Resistance (Ohms): 75; Power (Watts): 0.063W, 1/16W; Temperature Coefficient: ±25ppm/°C; Tolerance: ±0.1%; Supplier 1: Digi-Key; Supplier Part Number 1: RNCS0603BKE75R0CT-ND; RoHS: RoHS Compliant; Category: Resistors; Stock 1: 2583; Pricing 1: 1=0.7, 10=0.475, 50=0.2876, 100=0.2375, 250=0.18752, 500=0.16 (USD); Composition: Thin Film; Features: Anti-Corrosive, Moisture Resistant; Size / Dimension: 0.061" L x 0.031" W (1.55mm x 0.80mm); Height: 0.018" (0.45mm); Number of Terminations: 2; Packaging: Cut Tape (CT); Package / Case: 0603 (1608 Metric); ComponentLink1URL: http://www.seielect.com/Catalog/SEI-rncs.pdf; ComponentLink1Description: http://www.seielect.com/Catalog/SEI-rncs.pdf
footprint 1206
footprint 0603w
pins: 1, 2

## SIP2 (PCB TERMINAL)
designator JP?
2 pin molex connector; Manufacturer: Molex Inc; Connector Type: Header, Unshrouded; Number of Positions: 2; Number of Positions Loaded: All; Pitch: 0.100" (2.54mm); Supplier 1: Digi-Key; Supplier Part Number 1: WM2744-ND; Manufacturer Part Number: 22-29-2021; RoHS: RoHS Compliant; Category: Connectors, Interconnects; Stock 1: 10214; Pricing 1: 1=0.65, 10=0.456, 50=0.3518, 100=0.3062, 250=0.2606, 500=0.24758, 1000=0.22151, 2500=0.1759, 5000=0.1733 (USD); Contact Type: Male Pin; Number of Rows: 1; Row Spacing: -; Contact Mating Length: 0.295" (7.49mm); Mounting Type: Through Hole; Termination: Solder; Fastening Type: Friction Lock; Features: -; Contact Finish: Gold; Contact Finish Thickness: 20µin (0.51µm); Color: White; Packaging: Bulk; ComponentLink1URL: http://www.molex.com/pdm_docs/sd/022292021_sd.pdf; ComponentLink1Description: http://www.molex.com/pdm_docs/sd/022292021_sd.pdf
footprint sip2
footprint SIP2POWER
footprint SIP2MOLEX
pins: 1, 2

## SIP3 (PCB TERMINAL)
designator JP?
3 pin molex connector; Supplier 1: Digi-Key; Supplier Part Number 1: WM2745-ND
footprint PCBTERMINAL3
footprint SIP3MOLEX
pins: 1, 2, 3

## SIP4 (PCB TERMINAL)
designator JP?
4 pin molex connector; Manufacturer: Molex Inc; Connector Type: Header, Unshrouded; Number of Positions: 4; Number of Positions Loaded: All; Pitch: 0.100" (2.54mm); Supplier 1: Digi-Key; Supplier Part Number 1: WM2746-ND; Manufacturer Part Number: 22-29-2041; RoHS: RoHS Compliant; Category: Connectors, Interconnects; Stock 1: 6126; Pricing 1: 1=0.95, 10=0.664, 50=0.5124, 100=0.446, 250=0.3796, 500=0.36062, 1000=0.32266, 2500=0.25623, 5000=0.25243 (USD); Contact Type: Male Pin; Number of Rows: 1; Row Spacing: -; Contact Mating Length: 0.295" (7.49mm); Mounting Type: Through Hole; Termination: Solder; Fastening Type: Friction Lock; Features: -; Contact Finish: Gold; Contact Finish Thickness: 20µin (0.51µm); Color: White; Packaging: Bulk; ComponentLink1URL: http://www.molex.com/pdm_docs/sd/022292041_sd.pdf; ComponentLink1Description: http://www.molex.com/pdm_docs/sd/022292041_sd.pdf
footprint SIP4POWER
footprint SIP4MOLEX
pins: 1, 2, 3, 4

## SIP8
designator JP?, comment RJ-45
ethernet connector; Supplier 1: Digi-Key; Supplier Part Number 1: RJSSE-5080-ND
footprint Mod_jack_ethernet
footprint SMD_ETHERNET (Amphenol RJSSE-5080)
pins: 1, 2, 3, 4, 5, 6, 7, 8

## SMA_EDGE
designator JP?, comment SMA
sma connector; Manufacturer: TE Connectivity; Manufacturer Part Number: 5-1814832-1; Connector Type: Jack, Female Sockets; Contact Termination: Solder; Impedance: 50 Ohm; Frequency - Max: 3GHz; Supplier 1: Digi-Key; Supplier Part Number 1: A97594-ND; RoHS: RoHS Compliant; Category: Connectors, Interconnects; Stock 1: 22563; Pricing 1: 1=2.7, 25=2.322, 50=2.052, 100=1.836, 250=1.62, 500=1.4364 (USD); Connector Style: SMA; Mounting Type: Through Hole; Fastening Type: Threaded; Cable Group: -; Features: -; Color: -; Packaging: Bulk; ComponentLink1URL: http://documents.tycoelectronics.com/commerce/DocumentDelivery/DDEController?Action=srchrtrv&DocNm=1814832&DocType=CD&DocLang=EN; ComponentLink1Description: http://documents.tycoelectronics.com/commerce/DocumentDelivery/DDEController?Action=srchrtrv&DocNm=1814832&DocType=CD&DocLang=EN
footprint sma_edge
footprint sma_pcb_200
pins: 0 ground hidden, 0 ground, 1 signal

## SMA_EDGE_1
designator J?, comment SMA_EDGE
sma edge connector; Supplier 1: Digi-Key; Supplier Part Number 1: ACX1426-ND
footprint sma_edge
pins: 1 signal, 2 ground, 2